# Altium schematic symbol library control.SchLib: 7 symbols
Pins are listed as number, name and electrical type; pins without a type are passive.

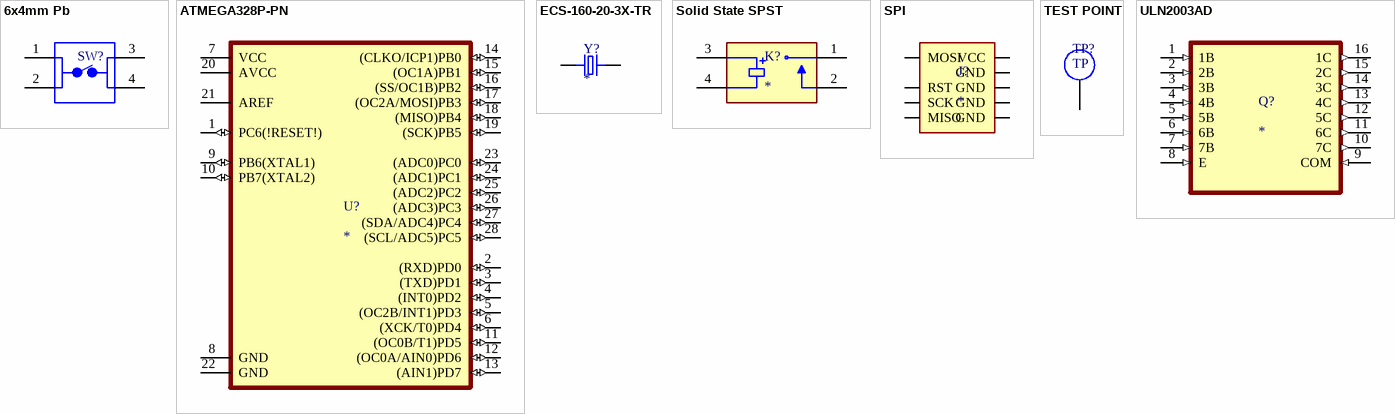
[diagram p0: symbols 6x4mm Pb to ULN2003AD]

## 6x4mm Pb
designator SW?  (value not drawn)
Switch Push Button OFF _ON_ SPST Round Button 0.05A 24VDC Momentary Contact PC Pins Thru-Hole; MF: TE Connectivity; MP: 3-1825910-1; Availability: Unavailable; SnapEDA_Link: https://www.snapeda.com/parts/3-1825910-1/TE%20Connectivity%20ALCOSWITCH%20Switches/view-part/452461/?ref=snap; Price: None; EU_RoHS_Compliance: Compliant; Package: None; TE_purchase_URL: https://www.te.com/usa-en/product-3-1825910-1.html?te_bu=Cor&te_type=disp&te_campaign=seda_glo_cor-seda-global-disp-prtnr-fy19-seda-model-bom-cta_sma-317_1&elqCampaignId=32493; Value: *
footprint 6x4mm Pb
pins: 1, 2, 3, 4

## ATMEGA328P-PN
designator U?
AVR AVRÂ® ATmega Microcontroller IC 8-Bit 20MHz 32KB _16K x 16_ FLASH 28-PDIP; MF: Microchip; MP: ATMEGA328P-PN; Availability: Unavailable; SnapEDA_Link: https://www.snapeda.com/parts/ATMEGA328P-PN/Microchip/view-part/396640/?ref=snap; Price: None; Package: PDIP-28 Atmel; Value: *
footprint DIL28
pins: 1 PC6(!RESET!) (io), 2 (RXD)PD0 (io), 3 (TXD)PD1 (io), 4 (INT0)PD2 (io), 5 (OC2B/INT1)PD3 (io), 6 (XCK/T0)PD4 (io), 7 VCC (power), 8 GND (power), 9 PB6(XTAL1) (io), 10 PB7(XTAL2) (io), 11 (OC0B/T1)PD5 (io), 12 (OC0A/AIN0)PD6 (io), 13 (AIN1)PD7 (io), 14 (CLKO/ICP1)PB0 (io), 15 (OC1A)PB1 (io), 16 (SS/OC1B)PB2 (io), 17 (OC2A/MOSI)PB3 (io), 18 (MISO)PB4 (io), 19 (SCK)PB5 (io), 20 AVCC (power), 21 AREF, 22 GND (power), 23 (ADC0)PC0 (io), 24 (ADC1)PC1 (io), 25 (ADC2)PC2 (io), 26 (ADC3)PC3 (io), 27 (SDA/ADC4)PC4 (io), 28 (SCL/ADC5)PC5 (io)

## ECS-160-20-3X-TR
designator Y?
16MHz Â±30ppm Crystal 20pF 50 Ohms HC-49/US; MP: ECS-160-20-3X-TR; MF: ECS Inc.; Digi-Key_Part_Number: XC1776CT-ND; Digi-Key_Purchase_URL: https://www.digikey.com/product-detail/en/ecs-inc/ECS-160-20-3X-TR/XC1776CT-ND/2676640?utm_source=snapeda&utm_medium=aggregator&utm_campaign=symbol; Package: HC49/US ECS International; Value: *; SnapEDA_Link: https://www.snapeda.com/parts/ECS-160-20-3X-TR/ECS%20Inc./view-part/561589/?ref=snap
footprint XTAL_ECS-160-20-3X-TR
pins: 1, 2

## Solid State SPST
designator K?
Solid State SPST-NO (1 Form A) 4-SIP; MF: Omron Automation; MP: G3MB-202P DC5; Price: None; SnapEDA_Link: https://www.snapeda.com/parts/G3MB-202P%20DC5/Omron%20Automation%20and%20Safety/view-part/914581/?ref=snap; Value: *; Package: SIP-4 Omron; Availability: Unavailable
footprint Solid State SPST
pins: 1, 2, 3, 4

## SPI
designator J?
footprint idc10
pins: 1 MOSI, 2 VCC, 4 GND, 5 RST, 6 GND, 7 SCK, 8 GND, 9 MISO, 10 GND
1 alternate drawing of the same symbol

## TEST POINT
designator TP?  (value not drawn)  (no BOM)
footprint Test point
pins: TP

## ULN2003AD
designator Q?
High-Voltage, High-Current Darlington Transistor Arrays; MF: Texas Instruments; MP: ULN2003AD; Mouser-Purchase-URL: https://snapeda.com/shop?store=Mouser&id=152260; SnapEDA_Link: https://www.snapeda.com/parts/ULN2003AD/Texas%20Instruments/view-part/152260/?ref=snap; Availability: Unavailable; Value: *; Price: None; Arrow_Electronics-Purchase-URL: https://snapeda.com/shop?store=Arrow+Electronics&id=152260; DigiKey-Purchase-URL: https://snapeda.com/shop?store=DigiKey&id=152260; Package: SOIC-16 Texas Instruments
footprint SOIC127P600X175-16N
pins: 1 1B (in), 2 2B (in), 3 3B (in), 4 4B (in), 5 5B (in), 6 6B (in), 7 7B (in), 8 E (in), 9 COM (in), 10 7C (out), 11 6C (out), 12 5C (out), 13 4C (out), 14 3C (out), 15 2C (out), 16 1C (out)